# Altium footprint library ssop_16_p65_620x530x200_l75x30.PcbLib: 1 footprints
Each footprint in its own frame and in the unit in brackets; x right, y up, seen from the top. Pads: shape width x height; smd on the part's side, far side on the other; paste and mask are expansions set on the pad; w line width, h text height; cw(c..) or ccw(c..) is an arc to the next point about the centre after c.
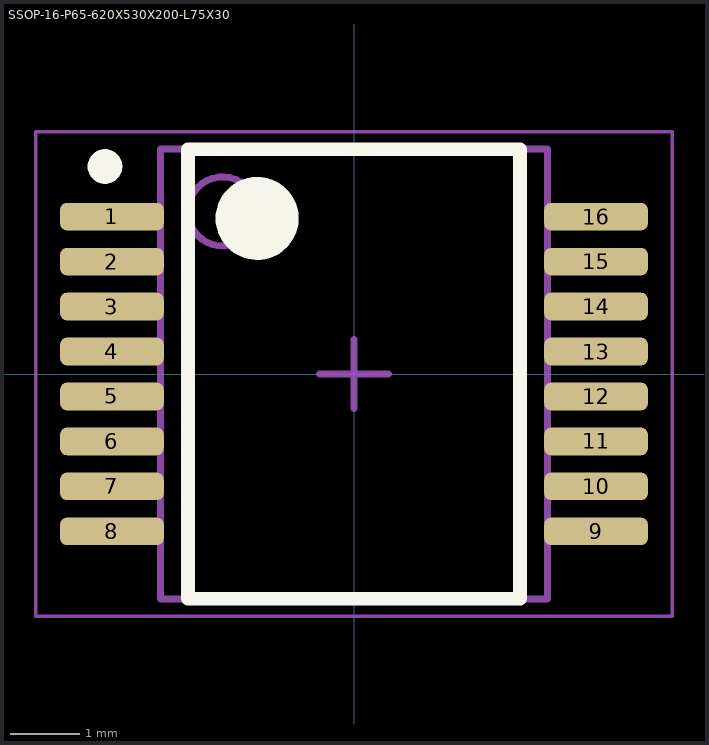
[diagram p0: the footprint, top view; thin cyan lines are the x and y axes]

## SSOP-16-P65-620X530X200-L75X30 [mm] "SSOP, 16-Leads, Body 6,20x5,30mm, Pitch 0,65mm, IPC Medium Density"
height 2
pads (16):
  rrect50% 1.5x0.4 smd: 1(-3.5,2.275) 2(-3.5,1.625) 3(-3.5,0.975) 4(-3.5,0.325) 5(-3.5,-0.325) 6(-3.5,-0.975) 7(-3.5,-1.625) 8(-3.5,-2.275) 9(3.5,-2.275) 10(3.5,-1.625) 11(3.5,-0.975) 12(3.5,-0.325) 13(3.5,0.325) 14(3.5,0.975) 15(3.5,1.625) 16(3.5,2.275)
Top Overlay:
  circle w0.25: c-3.6,3 r0.125
  circle w0.6: c-1.4,2.25 r0.3
  lines w0.2: -2.4,-3.25 -2.4,3.25 2.4,3.25 2.4,-3.25 -2.4,-3.25
Top Comment:
  text ".Comment" at 1.1,3.7 h1.2
Top Designator:
  text ".Designator" at -0.5,3.7 h1.2
Top Component Outline:
  circle w0.1: c-1.9,2.35 r0.5
  lines w0.1: -2.8,-3.25 -2.8,3.25 2.8,3.25 2.8,-3.25 -2.8,-3.25
Top Courtyard (Mech15):
  lines w0.05: -4.6,-3.5 -4.6,3.5 4.6,3.5 4.6,-3.5 -4.6,-3.5
  lines w0.1: -0.5,0 0.5,0 ; 0,-0.5 0,0.5
3D body "SSOP-16-6.20X5.30.STEP": height 2, standoff 0, extent -3.9,-3.1 3.9,3.1